# EAGLE library part AT90CAN128 (library JetsonProj)
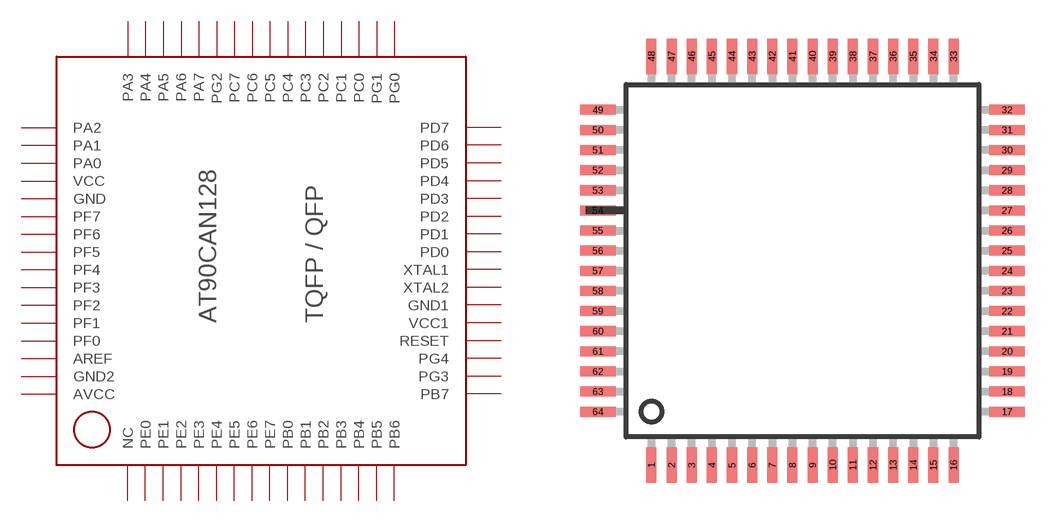
[diagram p7: symbol with the pads of QFP64/TQFP64; footprint QFP64/TQFP64]

Designator prefix -

## AT90CAN128  [QFP64/TQFP64]
1  NC
2  PE0
3  PE1
4  PE2
5  PE3
6  PE4
7  PE5
8  PE6
9  PE7
10  PB0
11  PB1
12  PB2
13  PB3
14  PB4
15  PB5
16  PB6
17  PB7
18  PG3
19  PG4
20  RESET
21  VCC1
22  GND1
23  XTAL2
24  XTAL1
25  PD0
26  PD1
27  PD2
28  PD3
29  PD4
30  PD5
31  PD6
32  PD7
33  PG0
34  PG1
35  PC0
36  PC1
37  PC2
38  PC3
39  PC4
40  PC5
41  PC6
42  PC7
43  PG2
44  PA7
45  PA6
46  PA5
47  PA4
48  PA3
49  PA2
50  PA1
51  PA0
52  VCC
53  GND
54  PF7
55  PF6
56  PF5
57  PF4
58  PF3
59  PF2
60  PF1
61  PF0
62  AREF
63  GND2
64  AVCC

## Footprint QFP64/TQFP64 (pad centres in mm)
Plastic Quad Flat Package SOT393-1/-2 64 leads source: http://www.semiconductors.philips.com/ LQFP-MSQFP-QFP-SQFP-TQFP-REFLOW.pdf
smd 0.4 x 1.4: 1 -6,-8.125; 2 -5.2,-8.125; 3 -4.4,-8.125; 4 -3.6,-8.125; 5 -2.8,-8.125; 6 -2,-8.125; 7 -1.2,-8.125; 8 -0.4,-8.125; 9 0.4,-8.125; 10 1.2,-8.125; 11 2,-8.125; 12 2.8,-8.125; 13 3.6,-8.125; 14 4.4,-8.125; 15 5.2,-8.125; 16 6,-8.125; 33 6,8.125; 34 5.2,8.125; 35 4.4,8.125; 36 3.6,8.125; 37 2.8,8.125; 38 2,8.125; 39 1.2,8.125; 40 0.4,8.125; 41 -0.4,8.125; 42 -1.2,8.125; 43 -2,8.125; 44 -2.8,8.125; 45 -3.6,8.125; 46 -4.4,8.125; 47 -5.2,8.125; 48 -6,8.125
smd 1.4 x 0.4: 17 8.125,-6; 18 8.125,-5.2; 19 8.125,-4.4; 20 8.125,-3.6; 21 8.125,-2.8; 22 8.125,-2; 23 8.125,-1.2; 24 8.125,-0.4; 25 8.125,0.4; 26 8.125,1.2; 27 8.125,2; 28 8.125,2.8; 29 8.125,3.6; 30 8.125,4.4; 31 8.125,5.2; 32 8.125,6; 49 -8.125,6; 50 -8.125,5.2; 51 -8.125,4.4; 52 -8.125,3.6; 53 -8.125,2.8; 54 -8.125,2; 55 -8.125,1.2; 56 -8.125,0.4; 57 -8.125,-0.4; 58 -8.125,-1.2; 59 -8.125,-2; 60 -8.125,-2.8; 61 -8.125,-3.6; 62 -8.125,-4.4; 63 -8.125,-5.2; 64 -8.125,-6